# Altium schematic symbol library Heat Sink.SchLib: 1 symbol
Pins are listed as number, name and electrical type; pins without a type are passive.

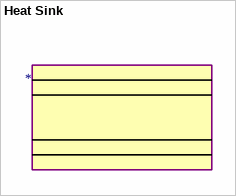
[diagram p0: symbol Heat Sink]

## Heat Sink
designator ?
BackPlane Heat Sink